# Altium integrated library Altium_XTAL.IntLib: 24 symbols
Pins are listed as number, name and electrical type; pins without a type are passive.

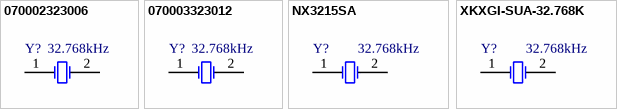
[diagram p0: symbols 070002323006 to XKXGI-SUA-32.768K]

## 070002323006
designator Y?, comment 32.768kHz
WE-XTAL Watch Crystal, THT, WATCH, 32.768kHz, +/-20ppm; Manufacturer Part Number: 830014219B; Manufacturer: Wurth Elektronik; Load Capacitance: 6pF; Frequency Stability: -; Frequency: 32.768kHz; Frequency Tolerance: +/-20ppm; Supplier 3 URL: https://www.thegioiic.com/thach-anh-32-768khz-2x6mm; ComponentLink1Description: Datasheet; ComponentLink1URL: https://katalog.we-online.com/pbs/datasheet/830014219B.pdf; Supplier 1 URL: https://www.mouser.com/ProductDetail/Wurth-Elektronik/830014219B?qs=2WXlatMagcHtIp%252BQ4AMyQg%3D%3D; Supplier 2 URL: https://www.digikey.com/en/products/detail/w%C3%BCrth-elektronik/830014219b/13900227; Value: 32.768kHz; Mount: THT; Operating Temperature Max: + 85 C; Operating Temperature Min: - 40 C; Package / Case: WATCH; Packaging: Tape and Reel; Supplier 1: Mouser; Supplier 1 Part Number: 710-830014219B; Supplier 2: Digi-Key; Supplier 2 Part Number: 1923-830014219B-ND; Supplier 3: thegioiic; Supplier 3 Part Number: N/A; LCSC Part #: N/A
footprint WE-XTAL_WATCH_830014219B (Quartz Crystal, size WATCH, body diameter 2mm)
pins: 1 OSC1, 2 OSC2

## 070003323012
designator Y?, comment 32.768kHz
WE-XTAL Watch Crystal, THT, WATCH, 32.768kHz, +/-20ppm; Manufacturer Part Number: 830002995B; Manufacturer: Wurth Elektronik; Load Capacitance: 12.5pF; Frequency Stability: -; Frequency: 32.768kHz; Frequency Tolerance: +/-20ppm; Supplier 3 URL: https://www.thegioiic.com/thach-anh-32-768khz-3x8mm; ComponentLink1Description: Datasheet; ComponentLink1URL: https://katalog.we-online.com/pbs/datasheet/830002995B.pdf; Supplier 1 URL: https://www.mouser.com/ProductDetail/Wurth-Elektronik/830002995B?qs=2WXlatMagcHCnw26vHVZcg%3D%3D; Supplier 2 URL: https://www.digikey.com/en/products/detail/w%C3%BCrth-elektronik/830002995b/13979343; Value: 32.768kHz; Mount: THT; Operating Temperature Max: + 85 C; Operating Temperature Min: - 40 C; Package / Case: WATCH; Packaging: Tape and Reel; Supplier 1: Mouser; Supplier 1 Part Number: 710-830002995B; Supplier 2: Digi-Key; Supplier 2 Part Number: 732-830002995B-ND; Supplier 3: thegioiic; Supplier 3 Part Number: N/A; LCSC Part #: N/A
footprint WE-XTAL_WATCH_830002995B
pins: 1 OSC1, 2 OSC2

## NX3215SA
designator Y?, comment 32.768kHz
Crystals CRYSTAL 32.768KHZ 6PF SMD; Manufacturer: NDK; Manufacturer Part Number: NX3215SA-32.768K-STD-MUA-14; Frequency Tolerance: +/-25ppm; ComponentLink1Description: Datasheet; ComponentLink1URL: https://www.mouser.vn/datasheet/2/905/c_NX3215SA_e-2580713.pdf; Frequency: 32.768kHz; Frequency Stability: -; LCSC Part #: C156244; Load Capacitance: 6pF; Mount: SMD/SMT; Operating Temperature Max: + 85 C; Operating Temperature Min: - 40 C; Package / Case: N/A; Packaging: Tape and Reel; Supplier 1: Mouser; Supplier 1 Part Number: 344-NX3215SA32768K14; Supplier 1 URL: https://www.mouser.vn/ProductDetail/NDK/NX3215SA-32.768K-STD-MUA-14?qs=55YtniHzbhCTyKGENMTVrQ%3D%3D; Supplier 2: Digi-Key; Supplier 2 Part Number: N/A; Supplier 2 URL: N/A; Supplier 3: thegioiic; Supplier 3 Part Number: N/A; Supplier 3 URL: N/A; Value: 32.768kHz
footprint NX3215SA
pins: 1 OSC1, 2 OSC2

## XKXGI-SUA-32.768K
designator Y?, comment 32.768kHz
32.768kHz Surface Mount Crystal 12.5pF ±20ppm ±30ppm SMD3215-2P Crystals ROHS; Manufacturer: YXC Crystal Oscillators; Manufacturer Part Number: XKXGI-SUA-32.768K; Frequency Stability: +/-30ppm; Frequency Tolerance: +/-20ppm; ComponentLink1Description: Datasheet; ComponentLink1URL: https://www.lcsc.com/datasheet/lcsc_datasheet_2210261730_YXC-Crystal-Oscillators-XKXGI-SUA-32-768K_C5213671.pdf; Frequency: 32.768kHz; LCSC Part #: C5213671; Load Capacitance: 12.5pF; Mount: SMD/SMT; Operating Temperature Max: + 85 C; Operating Temperature Min: - 40 C; Package / Case: SMD3215-2P; Packaging: Tape and Reel; Supplier 1: Mouser; Supplier 1 Part Number: N/A; Supplier 1 URL: N/A; Supplier 2: Digi-Key; Supplier 2 Part Number: N/A; Supplier 2 URL: N/A; Supplier 3: thegioiic; Supplier 3 Part Number: N/A; Supplier 3 URL: N/A; Value: 32.768kHz
footprint XKXGI-SUA-32.768K
pins: 1 OSC1, 2 OSC2


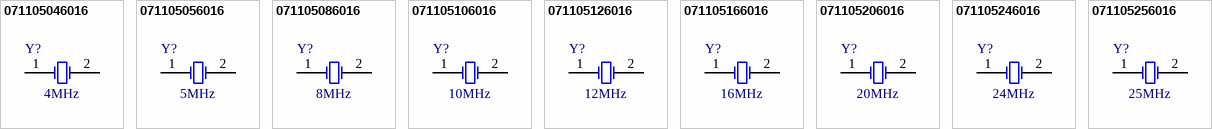
[diagram p1: symbols 071105046016 to 071105256016]

## 071105046016
designator Y?, comment 4MHz
WE-XTAL Quartz Crystal, SMT, HC49/4HSMX, 4MHz, +/-30ppm; Manufacturer Part Number: 830003071; Manufacturer: Wurth Elektronik; Frequency Stability: +/-50ppm; Load Capacitance: 16pF; Frequency: 4MHz; Frequency Tolerance: +/-30ppm; Supplier 3 URL: https://www.thegioiic.com/thach-anh-4mhz-2-chan-smd-hc49-s; ComponentLink1Description: Datasheet; ComponentLink1URL: https://katalog.we-online.com/pbs/datasheet/830003071.pdf; Supplier 1 URL: https://www.mouser.com/ProductDetail/Wurth-Elektronik/830003071?qs=2WXlatMagcG5ndMVgGcZZA%3D%3D; Supplier 2 URL: https://www.digikey.com/en/products/detail/w%C3%BCrth-elektronik/830003071/13979381; Value: 4MHz; Mount: SMD/SMT; Operating Temperature Max: + 60 C; Operating Temperature Min: - 10 C; Package / Case: HC49/4HSMX; Packaging: Tape and Reel; Supplier 1: Mouser; Supplier 1 Part Number: 710-830003071; Supplier 2: Digi-Key; Supplier 2 Part Number: 732-830003071TR-ND; Supplier 3: thegioiic; Supplier 3 Part Number: N/A
footprint WE-XTAL_HC49/4HSMX
pins: 1 OSC1, 2 OSC2

## 071105056016
designator Y?, comment 5MHz
WE-XTAL Quartz Crystal, SMT, HC49/4HSMX, 5MHz, +/-30ppm; Manufacturer Part Number: 830012312; Manufacturer: Wurth Elektronik; Frequency Stability: +/-50ppm; Load Capacitance: 30pF; Frequency: 5MHz; Frequency Tolerance: +/-30ppm; Supplier 3 URL: N/A; ComponentLink1Description: Datasheet; ComponentLink1URL: https://katalog.we-online.com/pbs/datasheet/830012312.pdf; Supplier 1 URL: https://www.mouser.com/ProductDetail/Wurth-Elektronik/830012312?qs=2WXlatMagcEjEGDkUOcypQ%3D%3D; Supplier 2 URL: https://www.digikey.com/en/products/detail/w%C3%BCrth-elektronik/830012312/13900399; Value: 5MHz; Mount: SMD/SMT; Operating Temperature Max: + 60 C; Operating Temperature Min: - 10 C; Package / Case: HC49/4HSMX; Packaging: Tape and Reel; Supplier 1: Mouser; Supplier 1 Part Number: 710-830012312; Supplier 2: Digi-Key; Supplier 2 Part Number: 732-830012312TR-ND; Supplier 3: thegioiic; Supplier 3 Part Number: N/A
footprint WE-XTAL_HC49/4HSMX
pins: 1 OSC1, 2 OSC2

## 071105086016
designator Y?, comment 8MHz
WE-XTAL Quartz Crystal, SMT, HC49/4HSMX, 8MHz, +/-30ppm; Manufacturer Part Number: 830003151; Manufacturer: Wurth Elektronik; Frequency Stability: +/-50ppm; Load Capacitance: 16pF; Frequency: 8MHz; Frequency Tolerance: +/-30ppm; Supplier 3 URL: https://www.thegioiic.com/thach-anh-8mhz-2-chan-smd-hc49-s; ComponentLink1Description: Datasheet; ComponentLink1URL: https://katalog.we-online.com/pbs/datasheet/830003151.pdf; Supplier 1 URL: https://www.mouser.com/ProductDetail/Wurth-Elektronik/830003151?qs=2WXlatMagcHisY7XHApyYg%3D%3D; Supplier 2 URL: https://www.digikey.com/en/products/detail/w%C3%BCrth-elektronik/830003151/13979296; Value: 8MHz; Mount: SMD/SMT; Operating Temperature Max: + 60 C; Operating Temperature Min: - 10 C; Package / Case: HC49/4HSMX; Packaging: Tape and Reel; Supplier 1: Mouser; Supplier 1 Part Number: 710-830003151; Supplier 2: Digi-Key; Supplier 2 Part Number: 732-830003151TR-ND; Supplier 3: thegioiic; Supplier 3 Part Number: N/A
footprint WE-XTAL_HC49/4HSMX
pins: 1 OSC1, 2 OSC2

## 071105106016
designator Y?, comment 10MHz
WE-XTAL Quartz Crystal, SMT, HC49/4HSMX, 10MHz, +/-30ppm; Manufacturer Part Number: 830003166; Manufacturer: Wurth Elektronik; Frequency Stability: +/-50ppm; Load Capacitance: 16pF; Frequency: 10MHz; Frequency Tolerance: +/-30ppm; Supplier 3 URL: https://www.thegioiic.com/thach-anh-10mhz-2-chan-smd-hc49-s; ComponentLink1Description: Datasheet; ComponentLink1URL: https://katalog.we-online.com/pbs/datasheet/830003166.pdf; Supplier 1 URL: https://www.mouser.com/ProductDetail/Wurth-Elektronik/830003166?qs=2WXlatMagcHFTM4Q3CDoWA%3D%3D; Supplier 2 URL: https://www.digikey.com/en/products/detail/w%C3%BCrth-elektronik/830003166/13900356; Value: 10MHz; Mount: SMD/SMT; Operating Temperature Max: + 60 C; Operating Temperature Min: - 10 C; Package / Case: HC49/4HSMX; Packaging: Tape and Reel; Supplier 1: Mouser; Supplier 1 Part Number: 710-830003166; Supplier 2: Digi-Key; Supplier 2 Part Number: 732-830003166TR-ND; Supplier 3: thegioiic; Supplier 3 Part Number: N/A
footprint WE-XTAL_HC49/4HSMX
pins: 1 OSC1, 2 OSC2

## 071105126016
designator Y?, comment 12MHz
WE-XTAL Quartz Crystal, SMT, HC49/4HSMX, 12MHz, +/-30ppm; Manufacturer Part Number: 830003210; Manufacturer: Wurth Elektronik; Frequency Stability: +/-50ppm; Load Capacitance: 16pF; Frequency: 12MHz; Frequency Tolerance: +/-30ppm; Supplier 3 URL: https://www.thegioiic.com/thach-anh-12mhz-2-chan-smd-hc49-s; ComponentLink1Description: Datasheet; ComponentLink1URL: https://katalog.we-online.com/pbs/datasheet/830003210.pdf; Supplier 1 URL: https://www.mouser.com/ProductDetail/Wurth-Elektronik/830003210?qs=2WXlatMagcEI70Ai6lh82Q%3D%3D; Supplier 2 URL: https://www.digikey.com/en/products/detail/w%C3%BCrth-elektronik/830003210/13900400; Value: 12MHz; Mount: SMD/SMT; Operating Temperature Max: + 60 C; Operating Temperature Min: - 10 C; Package / Case: HC49/4HSMX; Packaging: Tape and Reel; Supplier 1: Mouser; Supplier 1 Part Number: 710-830003210; Supplier 2: Digi-Key; Supplier 2 Part Number: 732-830003210TR-ND; Supplier 3: thegioiic; Supplier 3 Part Number: N/A
footprint WE-XTAL_HC49/4HSMX
pins: 1 OSC1, 2 OSC2

## 071105166016
designator Y?, comment 16MHz
WE-XTAL Quartz Crystal, SMT, HC49/4HSMX, 16MHz, +/-30ppm; Manufacturer Part Number: 830003237; Manufacturer: Wurth Elektronik; Frequency Stability: +/-50ppm; Load Capacitance: 16pF; Frequency: 16MHz; Frequency Tolerance: +/-30ppm; Supplier 3 URL: https://www.thegioiic.com/thach-anh-16mhz-2-chan-smd-hc49-s; ComponentLink1Description: Datasheet; ComponentLink1URL: https://katalog.we-online.com/pbs/datasheet/830003237.pdf; Supplier 1 URL: https://www.mouser.com/ProductDetail/Wurth-Elektronik/830003237?qs=2WXlatMagcFy7La1wROd1w%3D%3D; Supplier 2 URL: https://www.digikey.com/en/products/detail/w%C3%BCrth-elektronik/830003237/13979248; Value: 16MHz; Mount: SMD/SMT; Operating Temperature Max: + 60 C; Operating Temperature Min: - 10 C; Package / Case: HC49/4HSMX; Packaging: Tape and Reel; Supplier 1: Mouser; Supplier 1 Part Number: 710-830003237; Supplier 2: Digi-Key; Supplier 2 Part Number: 732-830003237TR-ND; Supplier 3: thegioiic; Supplier 3 Part Number: N/A
footprint WE-XTAL_HC49/4HSMX
pins: 1 OSC1, 2 OSC2

## 071105206016
designator Y?, comment 20MHz
WE-XTAL Quartz Crystal, SMT, HC49/4HSMX, 20MHz, +/-30ppm; Manufacturer Part Number: 830003181; Manufacturer: Wurth Elektronik; Frequency Stability: +/-50ppm; Load Capacitance: 16pF; Frequency: 20MHz; Frequency Tolerance: +/-30ppm; Supplier 3 URL: https://www.thegioiic.com/thach-anh-20mhz-2-chan-smd-hc49-s; ComponentLink1Description: Datasheet; ComponentLink1URL: https://katalog.we-online.com/pbs/datasheet/830003181.pdf; Supplier 1 URL: https://www.mouser.com/ProductDetail/Wurth-Elektronik/830003181?qs=2WXlatMagcFf1uIMoONFlg%3D%3D; Supplier 2 URL: https://www.digikey.com/en/products/detail/w%C3%BCrth-elektronik/830003181/13979259; Value: 20MHz; Mount: SMD/SMT; Operating Temperature Max: + 60 C; Operating Temperature Min: - 10 C; Package / Case: HC49/4HSMX; Packaging: Tape and Reel; Supplier 1: Mouser; Supplier 1 Part Number: 710-830003181; Supplier 2: Digi-Key; Supplier 2 Part Number: 732-830003181TR-ND; Supplier 3: thegioiic; Supplier 3 Part Number: N/A
footprint WE-XTAL_HC49/4HSMX
pins: 1 OSC1, 2 OSC2

## 071105246016
designator Y?, comment 24MHz
WE-XTAL Quartz Crystal, SMT, HC49/4HSMX, 24MHz, +/-30ppm; Manufacturer Part Number: 830012504; Manufacturer: Wurth Elektronik; Frequency Stability: +/-50ppm; Load Capacitance: 16pF; Frequency: 24MHz; Frequency Tolerance: +/-30ppm; Supplier 3 URL: https://www.thegioiic.com/thach-anh-24mhz-2-chan-smd-hc49-s; ComponentLink1Description: Datasheet; ComponentLink1URL: https://katalog.we-online.com/pbs/datasheet/830012504.pdf; Supplier 1 URL: https://www.mouser.com/ProductDetail/Wurth-Elektronik/830012504?qs=2WXlatMagcHGDjK9VoFxJA%3D%3D; Supplier 2 URL: https://www.digikey.com/en/products/detail/w%C3%BCrth-elektronik/830012504/13900310; Value: 24MHz; Mount: SMD/SMT; Operating Temperature Max: + 60 C; Operating Temperature Min: - 10 C; Package / Case: HC49/4HSMX; Packaging: Tape and Reel; Supplier 1: Mouser; Supplier 1 Part Number: 710-830012504; Supplier 2: Digi-Key; Supplier 2 Part Number: 732-830012504TR-ND; Supplier 3: thegioiic; Supplier 3 Part Number: N/A
footprint WE-XTAL_HC49/4HSMX
pins: 1 OSC1, 2 OSC2

## 071105256016
designator Y?, comment 25MHz
WE-XTAL Quartz Crystal, SMT, HC49/4HSMX, 25MHz, +/-30ppm; Manufacturer Part Number: 830010595; Manufacturer: Wurth Elektronik; Frequency Stability: +/-50ppm; Load Capacitance: 16pF; Frequency: 25MHz; Frequency Tolerance: +/-30ppm; Supplier 3 URL: https://www.thegioiic.com/thach-anh-25mhz-2-chan-smd-hc49-s; ComponentLink1Description: Datasheet; ComponentLink1URL: https://katalog.we-online.com/pbs/datasheet/830010595.pdf; Supplier 1 URL: https://www.mouser.com/ProductDetail/Wurth-Elektronik/830010595?qs=2WXlatMagcF3WD%2FXjgfV4g%3D%3D; Supplier 2 URL: https://www.digikey.com/en/products/detail/w%C3%BCrth-elektronik/830010595/13900288; Value: 25MHz; Mount: SMD/SMT; Operating Temperature Max: + 60 C; Operating Temperature Min: - 10 C; Package / Case: HC49/4HSMX; Packaging: Tape and Reel; Supplier 1: Mouser; Supplier 1 Part Number: 710-830010595; Supplier 2: Digi-Key; Supplier 2 Part Number: 732-830010595TR-ND; Supplier 3: thegioiic; Supplier 3 Part Number: N/A
footprint WE-XTAL_HC49/4HSMX
pins: 1 OSC1, 2 OSC2


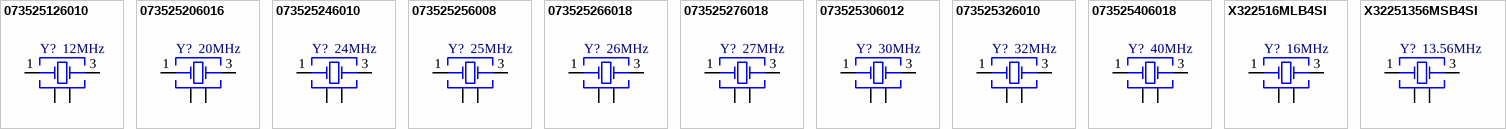
[diagram p2: symbols 073525126010 to X32251356MSB4SI]

## 073525126010
designator Y?, comment 12MHz
WE-XTAL Quartz Crystal, SMT, CFPX-180, 12MHz, +/-30ppm; Manufacturer Part Number: NX3225SA-12MHZ-STD-CSR-6; Manufacturer: NDK; Frequency Stability: +/-25ppm; Load Capacitance: 8pF; Frequency Tolerance: +/-15ppm; Frequency: 12MHz; Mounting Technology: SMT; Supplier 3 URL: https://www.thegioiic.com/thach-anh-12mhz-5032-4-chan-smd; ComponentLink1Description: Datasheet; ComponentLink1URL: https://www.mouser.com/datasheet/2/905/c_NX3225SA_e-1317523.pdf; Supplier 1 URL: https://www.mouser.com/ProductDetail/NDK/NX3225SA-12MHZ-STD-CSR-6?qs=55YtniHzbhCh3aOy4zgUJQ%3D%3D; Supplier 2 URL: https://www.digikey.com/en/products/detail/ndk-america-inc/NX3225SA-12MHZ-STD-CSR-6/3125639; Value: 12MHz; Operating Temperature Max: + 70 C; Operating Temperature Min: + 20 C; Package / Case: CFPX-104/5032; Packaging: Tape and Reel; Supplier 1: Mouser; Supplier 1 Part Number: 344-NX3225SA12MCSR6; Supplier 2: Digi-Key; Supplier 2 Part Number: 644-1180-2-ND; Supplier 3: thegioiic; Supplier 3 Part Number: N/A; LCSC Part #: N/A
footprint WE-XTAL_CFPX-180
pins: 1 Crystal, 2 GND, 3 Crystal, 4 GND

## 073525206016
designator Y?, comment 20MHz
WE-XTAL Quartz Crystal, SMT, CFPX-180, 20MHz, +/-50ppm; Manufacturer Part Number: NX3225SA-20.000000MHZ-B2; Manufacturer: NDK; Frequency Stability: +/-15ppm; Load Capacitance: 7.2 pF; Frequency Tolerance: +/-10ppm; Frequency: 20MHz; Mounting Technology: SMT; Supplier 3 URL: https://www.thegioiic.com/thach-anh-20mhz-5032-4-chan-smd; ComponentLink1Description: Datasheet; ComponentLink1URL: https://www.mouser.com/datasheet/2/905/ndk_08142018_NX3225SA-20.000000MHz-B2-1389018.pdf; Supplier 1 URL: https://www.mouser.com/ProductDetail/NDK/NX3225SA-20.000000MHZ-B2?qs=w%2Fv1CP2dgqr91JjcOyduEA%3D%3D; Supplier 2 URL: https://www.digikey.com/en/products/detail/ndk-america-inc/NX3225SA-20-000000MHZ-B2/1468339; Value: 20MHz; Operating Temperature Max: + 85 C; Operating Temperature Min: - 40 C; Package / Case: CFPX-104/5032; Packaging: Tape and Reel; Supplier 1: Mouser; Supplier 1 Part Number: 344-NX3225SA20MHZB2; Supplier 2: Digi-Key; Supplier 2 Part Number: 644-1098-2-ND; Supplier 3: thegioiic; Supplier 3 Part Number: N/A; LCSC Part #: N/A
footprint WE-XTAL_CFPX-180
pins: 1 Crystal, 2 GND, 3 Crystal, 4 GND

## 073525246010
designator Y?, comment 24MHz
WE-XTAL Quartz Crystal, SMT, CFPX-180, 24MHz, +/-10ppm; Manufacturer Part Number: NX3225SA-24.000MHZ-STD-CSR-1; Manufacturer: NDK; Frequency Stability: +/-15ppm; Load Capacitance: 8pF; Frequency: 24MHz; Frequency Tolerance: +/-15ppm; Mounting Technology: SMT; Supplier 3 URL: https://www.thegioiic.com/thach-anh-24mhz-5032-4-chan-smd; ComponentLink1Description: Datasheet; ComponentLink1URL: https://www.mouser.com/datasheet/2/905/ndk_04232018_NX3225SA-STD-CSR-1-1324926.pdf; Supplier 1 URL: https://www.mouser.com/ProductDetail/NDK/NX3225SA-24.000MHZ-STD-CSR-1?qs=55YtniHzbhAmpjBlg6S4sA%3D%3D; Supplier 2 URL: N/A; Value: 24MHz; Operating Temperature Max: + 85 C; Operating Temperature Min: - 40 C; Package / Case: CFPX-104/5032; Packaging: Tape and Reel; Supplier 1: Mouser; Supplier 1 Part Number: 344-NX3225SA24MCSR1; Supplier 2: Digi-Key; Supplier 2 Part Number: N/A; Supplier 3: thegioiic; Supplier 3 Part Number: N/A; LCSC Part #: N/A
footprint WE-XTAL_CFPX-180
pins: 1 Crystal, 2 GND, 3 Crystal, 4 GND

## 073525256008
designator Y?, comment 25MHz
WE-XTAL Quartz Crystal, SMT, CFPX-180, 25MHz, +/-10ppm; Manufacturer Part Number: NX3225GA-25.000M-STD-CRG-1; Manufacturer: NDK; Frequency Stability: +/-30ppm; Load Capacitance: 8pF; Frequency Tolerance: +/-20ppm; Frequency: 25MHz; Mounting Technology: SMT; Supplier 3 URL: https://www.thegioiic.com/thach-anh-25mhz-5032-4-chan-smd; ComponentLink1Description: Datasheet; ComponentLink1URL: https://www.mouser.com/datasheet/2/905/ndk_08142018_NX3225GA-27.000M-STD-CRG-1-1389019.pdf; Supplier 1 URL: https://www.mouser.com/ProductDetail/NDK/NX3225GA-25.000M-STD-CRG-1?qs=w%2Fv1CP2dgqrtPHjsihYWzQ%3D%3D; Supplier 2 URL: N/A; Value: 25MHz; Operating Temperature Max: + 60 C; Operating Temperature Min: - 10 C; Package / Case: CFPX-104/5032; Packaging: Tape and Reel; Supplier 1: Mouser; Supplier 1 Part Number: 344-NX3225GA25MSTRG1; Supplier 2: Digi-Key; Supplier 2 Part Number: N/A; Supplier 3: thegioiic; Supplier 3 Part Number: N/A; LCSC Part #: N/A
footprint WE-XTAL_CFPX-180
pins: 1 Crystal, 2 GND, 3 Crystal, 4 GND

## 073525266018
designator Y?, comment 26MHz
WE-XTAL Quartz Crystal, SMT, CFPX-180, 26MHz, +/-20ppm; Manufacturer Part Number: NX3225SA-26.000000MHZ-G2; Manufacturer: NDK; Frequency Stability: +/-11ppm; Load Capacitance: 10 pF; Frequency Tolerance: +/-10ppm; Frequency: 26MHz; Mounting Technology: SMT; Supplier 3 URL: https://www.thegioiic.com/thach-anh-26mhz-3225-4-chan-smd; ComponentLink1Description: Datasheet; ComponentLink1URL: https://www.mouser.com/datasheet/2/905/ndk_08142018_NX3225SA-26.000000MHz-G2-1388987.pdf; Supplier 1 URL: https://www.mouser.com/ProductDetail/NDK/NX3225SA-26.000000MHZ-G2?qs=w%2Fv1CP2dgqpn8gBA99%252BHVQ%3D%3D; Supplier 2 URL: https://www.digikey.com/en/products/detail/ndk-america-inc/nx3225sa-26-000000mhz-g2/1468350; Value: 26MHz; Operating Temperature Max: + 85 C; Operating Temperature Min: - 40 C; Package / Case: CFPX-180/3525; Packaging: Tape and Reel; Supplier 1: Mouser; Supplier 1 Part Number: 344-NX3225SA26MHZG2; Supplier 2: Digi-Key; Supplier 2 Part Number: 644-1109-2-ND; Supplier 3: thegioiic; Supplier 3 Part Number: N/A; LCSC Part #: N/A
footprint WE-XTAL_CFPX-180
pins: 1 Crystal, 2 GND, 3 Crystal, 4 GND

## 073525276018
designator Y?, comment 27MHz
WE-XTAL Quartz Crystal, SMT, CFPX-180, 27MHz, +/-20ppm; Manufacturer Part Number: NX3225GA-27M-STD-CRG-2; Manufacturer: NDK; Frequency Stability: +/-30ppm; Load Capacitance: 8pF; Frequency: 27MHz; Frequency Tolerance: +/-20ppm; Mounting Technology: SMT; Supplier 3 URL: N/A; ComponentLink1Description: Datasheet; ComponentLink1URL: https://www.mouser.com/datasheet/2/905/c_NX3225GA_e-2580733.pdf; Supplier 1 URL: https://www.mouser.com/ProductDetail/NDK/NX3225GA-27M-STD-CRG-2?qs=w%2Fv1CP2dgqrhBJm0JvTWiA%3D%3D; Supplier 2 URL: https://www.digikey.com/en/products/detail/ndk-america-inc/nx3225ga-27m-std-crg-2/4914446; Value: 27MHz; Operating Temperature Max: + 85 C; Operating Temperature Min: - 40 C; Package / Case: CFPX-180/3525; Packaging: Tape and Reel; Supplier 1: Mouser; Supplier 1 Part Number: 344-NX3225GA27MSTRG2; Supplier 2: Digi-Key; Supplier 2 Part Number: 644-1232-2-ND; Supplier 3: thegioiic; Supplier 3 Part Number: N/A; LCSC Part #: N/A
footprint WE-XTAL_CFPX-180
pins: 1 Crystal, 2 GND, 3 Crystal, 4 GND

## 073525306012
designator Y?, comment 30MHz
WE-XTAL Quartz Crystal, SMT, CFPX-180, 30MHz, +/-10ppm; Manufacturer Part Number: NX3225SA-30.000M-STD-CSR-3; Manufacturer: NDK; Frequency Stability: +/-15ppm; Load Capacitance: 8pF; Frequency: 30MHz; Frequency Tolerance: +/-15ppm; Mounting Technology: SMT; Supplier 3 URL: https://www.thegioiic.com/thach-anh-30mhz-5032-4-chan-smd; ComponentLink1Description: Datasheet; ComponentLink1URL: https://www.mouser.com/datasheet/2/905/ndk_04232018_NX3225SA_STD-CSR-3-1324920.pdf; Supplier 1 URL: https://www.mouser.com/ProductDetail/NDK/NX3225SA-30.000M-STD-CSR-3?qs=w%2Fv1CP2dgqpeKuTpBQU%2FIw%3D%3D; Supplier 2 URL: N/A; Value: 30MHz; Operating Temperature Max: + 60 C; Operating Temperature Min: - 10 C; Package / Case: CFPX-104/5032; Packaging: Tape and Reel; Supplier 1: Mouser; Supplier 1 Part Number: 344-NX3225SA30MSTSR3; Supplier 2: Digi-Key; Supplier 2 Part Number: N/A; Supplier 3: thegioiic; Supplier 3 Part Number: N/A; LCSC Part #: N/A
footprint WE-XTAL_CFPX-180
pins: 1 Crystal, 2 GND, 3 Crystal, 4 GND

## 073525326010
designator Y?, comment 32MHz
WE-XTAL Quartz Crystal, SMT, CFPX-180, 32MHz, +/-30ppm; Manufacturer Part Number: NX3225SA-32MHZ-EXS00A-CS02368; Manufacturer: NDK; Frequency Stability: +/-16ppm; Load Capacitance: 9pF; Frequency Tolerance: +/-10ppm; Frequency: 32MHz; Mounting Technology: SMT; Supplier 3 URL: N/A; ComponentLink1Description: Datasheet; ComponentLink1URL: https://www.mouser.com/datasheet/2/905/ndk_04232018_NX3225SA-32MHZ-EXS00A-CS02368-1324924.pdf; Supplier 1 URL: https://www.mouser.com/ProductDetail/NDK/NX3225SA-32MHZ-EXS00A-CS02368?qs=55YtniHzbhCu90OOsHDzwg%3D%3D; Supplier 2 URL: https://www.digikey.com/en/products/detail/ndk-america-inc/nx3225sa-32mhz-exs00a-cs02368/3946316; Value: 32MHz; Operating Temperature Max: + 70 C; Operating Temperature Min: + 20 C; Package / Case: CFPX-180/3525; Packaging: Tape and Reel; Supplier 1: Mouser; Supplier 1 Part Number: 344-NX3225SA32MHZEXS; Supplier 2: Digi-Key; Supplier 2 Part Number: 644-1208-2-ND; Supplier 3: thegioiic; Supplier 3 Part Number: N/A; LCSC Part #: N/A
footprint WE-XTAL_CFPX-180
pins: 1 Crystal, 2 GND, 3 Crystal, 4 GND

## 073525406018
designator Y?, comment 40MHz
WE-XTAL Quartz Crystal, SMT, CFPX-180, 40MHz, +/-20ppm; Manufacturer Part Number: NX3225SA-40M-EXS00A-CS03880; Manufacturer: NDK; Frequency Stability: +/-17ppm; Load Capacitance: 8pF; Frequency Tolerance: +/-10ppm; Frequency: 40MHz; Mounting Technology: SMT; Supplier 3 URL: https://www.thegioiic.com/thach-anh-40mhz-5032-4-chan-smd; ComponentLink1Description: Datasheet; ComponentLink1URL: https://www.mouser.com/datasheet/2/905/ndk_08142018_NX3225SA-40M-EXS00A-CS03880-1389054.pdf; Supplier 1 URL: https://www.mouser.com/ProductDetail/NDK/NX3225SA-40M-EXS00A-CS03880?qs=w%2Fv1CP2dgqo9kGSMUdcrAw%3D%3D; Supplier 2 URL: https://www.digikey.com/en/products/detail/ndk-america-inc/NX3225SA-40M-EXS00A-CS03880/5015625; Value: 40MHz; Operating Temperature Max: + 60 C; Operating Temperature Min: - 10 C; Package / Case: CFPX-104/5032; Packaging: Tape and Reel; Supplier 1: Mouser; Supplier 1 Part Number: 344-NX3225SA40S03880; Supplier 2: Digi-Key; Supplier 2 Part Number: 644-1249-2-ND; Supplier 3: thegioiic; Supplier 3 Part Number: N/A; LCSC Part #: N/A
footprint WE-XTAL_CFPX-180
pins: 1 Crystal, 2 GND, 3 Crystal, 4 GND

## X322516MLB4SI
designator Y?, comment 16MHz
CRYSTAL 16MHz 9pF SMD; Manufacturer Part Number: X322516MLB4SI; Manufacturer: YXC Crystal Oscillators; Frequency Stability: ±10ppm; Frequency Tolerance: ±20ppm; Frequency: 16MHz; Load Capacitance: 9pF; Mounting Technology: SMT; Supplier 3 URL: N/A; ComponentLink1Description: Datasheet; ComponentLink1URL: https://www.mouser.com/datasheet/2/905/c_NX3225SA_e-1317523.pdf; Supplier 1 URL: N/A; Supplier 2 URL: N/A; Value: 16MHz; Operating Temperature Max: + 60 C; Operating Temperature Min: - 10 C; Package / Case: 3225; Packaging: Tape and Reel; Supplier 1: Mouser; Supplier 1 Part Number: N/A; Supplier 2: Digi-Key; Supplier 2 Part Number: N/A; Supplier 3: thegioiic; Supplier 3 Part Number: N/A; LCSC Part #: C13738
footprint WE-XTAL_CFPX-180
pins: 1 Crystal, 2 GND, 3 Crystal, 4 GND

## X32251356MSB4SI
designator Y?, comment 13.56MHz
CRYSTAL 13.56MHz 20pF SMD; Manufacturer Part Number: X32251356MSB4SI; Manufacturer: YXC Crystal Oscillators; Frequency Stability: ±10ppm; Frequency Tolerance: ±20ppm; Frequency: 13.56MHz; Load Capacitance: 20pF; Mounting Technology: SMT; Supplier 3 URL: N/A; ComponentLink1Description: Datasheet; ComponentLink1URL: https://www.lcsc.com/datasheet/C21662.pdf; Supplier 1 URL: N/A; Supplier 2 URL: N/A; Value: 13.56MHz; Operating Temperature Max: + 60 C; Operating Temperature Min: - 10 C; Package / Case: 3225; Packaging: Tape and Reel; Supplier 1: Mouser; Supplier 1 Part Number: N/A; Supplier 2: Digi-Key; Supplier 2 Part Number: N/A; Supplier 3: thegioiic; Supplier 3 Part Number: N/A; LCSC Part #: C21662
footprint WE-XTAL_CFPX-180
pins: 1 Crystal, 2 GND, 3 Crystal, 4 GND